# EAGLE library part EFR32FG12P433F1024*M68 (library EFM32)
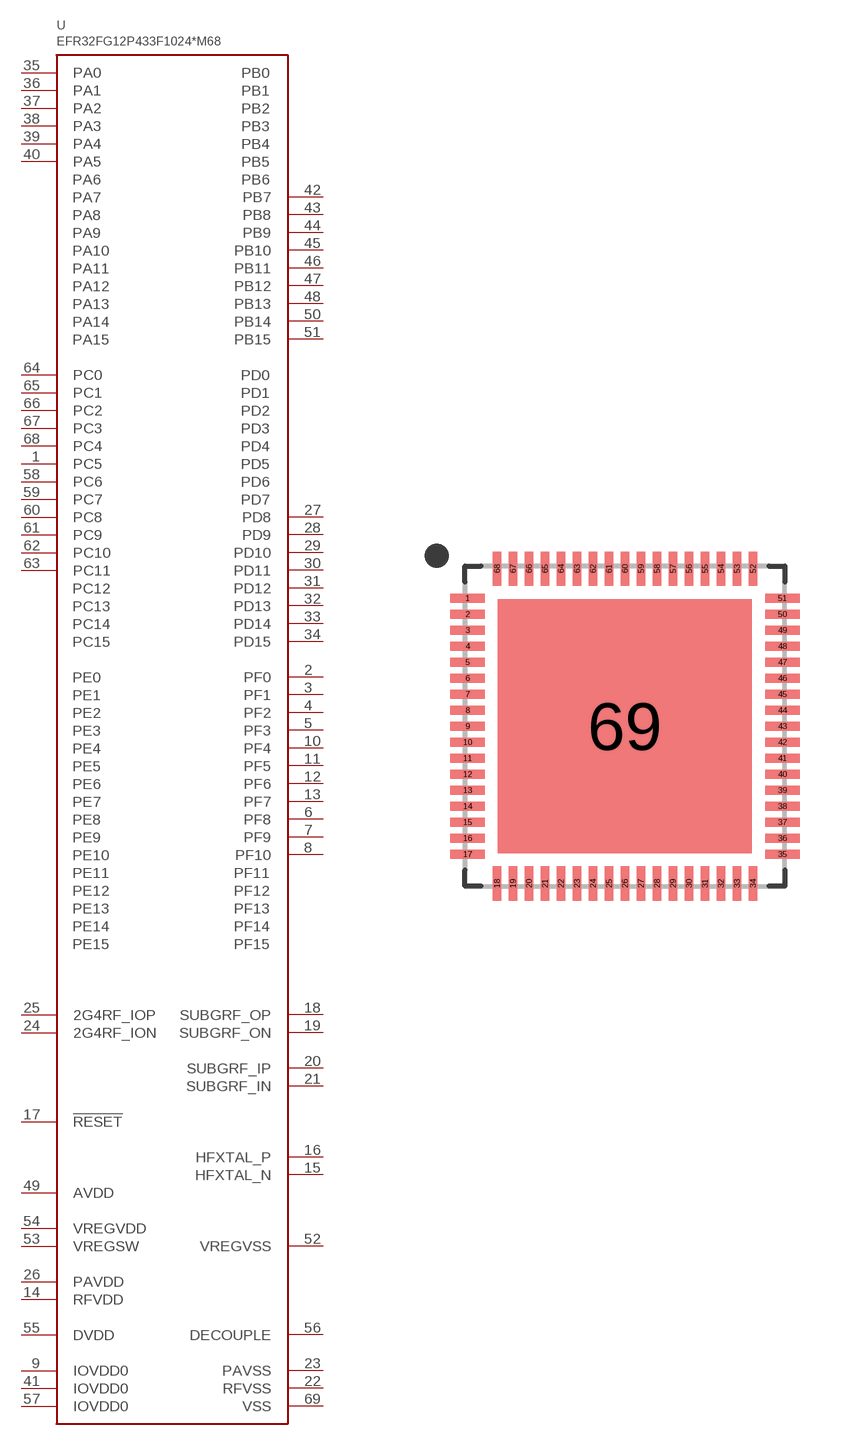
[diagram p15: symbol with the pads of QFN68; footprint QFN68]

Designator prefix U

## EFR32FG12P433F1024GM68, EFR32FG12P433F1024IM68  [QFN68]
1  PC5
2  PF0
3  PF1
4  PF2
5  PF3
6  PF8
7  PF9
8  PF10
9  IOVDD0
10  PF4
11  PF5
12  PF6
13  PF7
14  RFVDD
15  HFXTAL_N
16  HFXTAL_P
17  !RESET
18  SUBGRF_OP
19  SUBGRF_ON
20  SUBGRF_IP
21  SUBGRF_IN
22  RFVSS
23  PAVSS
24  2G4RF_ION
25  2G4RF_IOP
26  PAVDD
27  PD8
28  PD9
29  PD10
30  PD11
31  PD12
32  PD13
33  PD14
34  PD15
35  PA0
36  PA1
37  PA2
38  PA3
39  PA4
40  PA5
41  IOVDD0
42  PB7
43  PB8
44  PB9
45  PB10
46  PB11
47  PB12
48  PB13
49  AVDD
50  PB14
51  PB15
52  VREGVSS
53  VREGSW
54  VREGVDD
55  DVDD
56  DECOUPLE
57  IOVDD0
58  PC6
59  PC7
60  PC8
61  PC9
62  PC10
63  PC11
64  PC0
65  PC1
66  PC2
67  PC3
68  PC4
69  VSS

## Footprint QFN68 (pad centres in mm)
smd 0.86 x 0.22: 1 -3.935,3.2; 2 -3.935,2.8; 3 -3.935,2.4; 4 -3.935,2; 5 -3.935,1.6; 6 -3.935,1.2; 7 -3.935,0.8; 8 -3.935,0.4; 9 -3.935,0; 10 -3.935,-0.4; 11 -3.935,-0.8; 12 -3.935,-1.2; 13 -3.935,-1.6; 14 -3.935,-2; 15 -3.935,-2.4; 16 -3.935,-2.8; 17 -3.935,-3.2; 35 3.935,-3.2; 36 3.935,-2.8; 37 3.935,-2.4; 38 3.935,-2; 39 3.935,-1.6; 40 3.935,-1.2; 41 3.935,-0.8; 42 3.935,-0.4; 43 3.935,0; 44 3.935,0.4; 45 3.935,0.8; 46 3.935,1.2; 47 3.935,1.6; 48 3.935,2; 49 3.935,2.4; 50 3.935,2.8; 51 3.935,3.2
smd 0.22 x 0.86: 18 -3.2,-3.935; 19 -2.8,-3.935; 20 -2.4,-3.935; 21 -2,-3.935; 22 -1.6,-3.935; 23 -1.2,-3.935; 24 -0.8,-3.935; 25 -0.4,-3.935; 26 0,-3.935; 27 0.4,-3.935; 28 0.8,-3.935; 29 1.2,-3.935; 30 1.6,-3.935; 31 2,-3.935; 32 2.4,-3.935; 33 2.8,-3.935; 34 3.2,-3.935; 52 3.2,3.935; 53 2.8,3.935; 54 2.4,3.935; 55 2,3.935; 56 1.6,3.935; 57 1.2,3.935; 58 0.8,3.935; 59 0.4,3.935; 60 0,3.935; 61 -0.4,3.935; 62 -0.8,3.935; 63 -1.2,3.935; 64 -1.6,3.935; 65 -2,3.935; 66 -2.4,3.935; 67 -2.8,3.935; 68 -3.2,3.935
smd 6.35 x 6.35: 69 0,0